# Altium footprint library Jumper-SolderBridge.PcbLib: 24 footprints (part 2 of 2)
Each footprint in its own frame and in the unit in brackets; x right, y up, seen from the top. Pads: shape width x height; smd on the part's side, far side on the other; paste and mask are expansions set on the pad; w line width, h text height; cw(c..) or ccw(c..) is an arc to the next point about the centre after c.
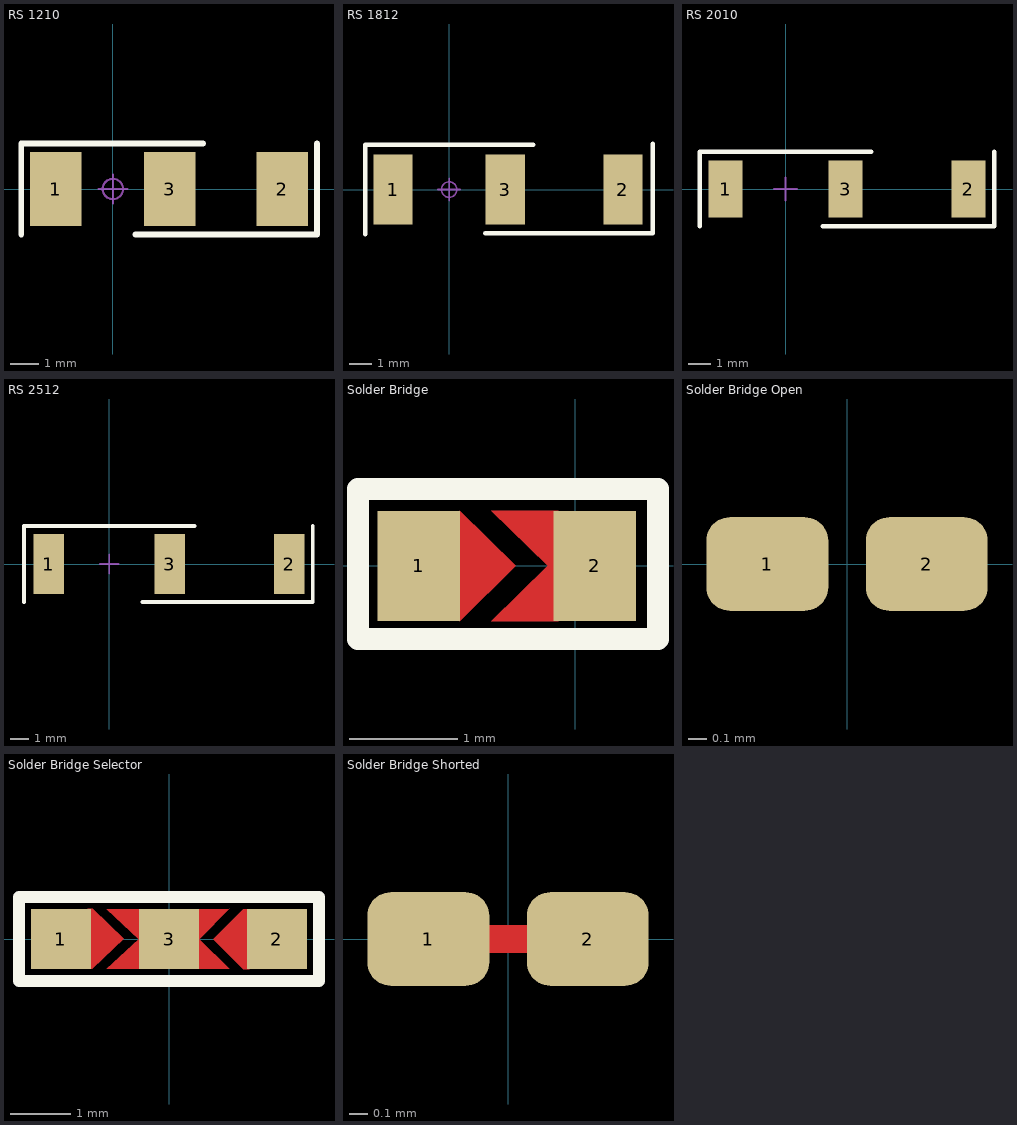
[diagram p1: the footprints below, top view; thin cyan lines are the x and y axes]

## RS 1210 [mil]
pads (3):
  rect 70x100 smd: 1(-77.5,0) 2(230,0) 3(77.5,0)
Top Overlay:
  lines w8: -124.5,-62 -124.5,62 40.5,62 122.5,62 ; 30.5,-62 195.5,-62 277.5,-62 277.5,62
Mechanical 15:
  circle w3: c0,0 r13.78
  lines w3: -19.68,0 19.68,0 ; 0,-19.68 0,19.69
3D body "R 1210.STEP": height 21.69, standoff -0.32, extent -62.99,-49.2 63,49.22

## RS 1812 [mil]
pads (3):
  rect 70x125 smd: 1(-100,0) 2(310,0) 3(100,0)
Top Overlay:
  lines w8: -150,-80 -150,80 -70,80 -50,80 40,80 50,80 150,80 ; 64,-78 363,-78 363,82
Mechanical 15:
  circle w3: c0,0 r13.78
  lines w3: -19.68,0 19.69,0 ; 0,-19.68 0,19.69
3D body "R 1812.STEP": height 21.69, standoff -0.47, extent -88.58,-62.99 88.59,63

## RS 2010 [mm]
pads (3):
  rect 1.52x2.54 smd: 1(-2.665,0) 2(8.128,0) 3(2.665,0)
Top Overlay:
  lines w0.203: -3.81,-1.651 -3.81,0.635 -3.81,1.651 1.27,1.651 3.81,1.651 ; 1.651,-1.651 6.731,-1.651 9.271,-1.651 9.271,-0.635 9.271,1.651
Mechanical 15:
  lines w0.1: -0.508,0 0.508,0 ; 0,-0.508 0,0.508
3D body "R 2010.STEP": height 0.55, standoff -0.01, extent -2.5,-1.25 2.5,1.25

## RS 2512 [mm]
pads (3):
  rect 1.65x3.2 smd: 1(-3.24,0) 2(9.652,0) 3(3.24,0)
Top Overlay:
  lines w0.203: -4.572,-2.032 -4.572,2.032 4.572,2.032 ; 1.778,-2.032 10.922,-2.032 10.922,2.032
Mechanical 15:
  lines w0.1: -0.508,0 0.508,0 ; 0,-0.508 0,0.508
3D body "R 2512.STEP": height 0.55, standoff -0.02, extent -3.2,-1.6 3.2,1.6

## Solder Bridge [mil]
pads (2):
  rect 30x40 smd: 1(-57,0) 2(7,0)
Top Layer:
  region: -30.57,20 -10,0 -30.57,-20 -6.22,-20 -6.22,20
  region: -42,20 -21.71,0.03 -42,-20
Top Overlay:
  lines w7.87: -79,-26.56 30,-26.56 30,28 -79,28 -79,-26.56
Top Solder:
  region: -42.29,24 -11.78,24 -11.78,-24 -42.29,-24
Mechanical 1:
  lines w3.94: -78,-26 -78,26 28,26 28,-26 -78,-26

## Solder Bridge Open [mil]
pads (2):
  rrect50% 26x20 smd: 1(-17,0) 2(17,0)
Top Solder:
  region: 25,12 -25,12 -26.39,12 -28.96,10.94 -30.94,8.97 -32,6.39 -32,5 -32,-5 -32,-6.39 -30.94,-8.97 -28.97,-10.94 -26.39,-12 -25,-12 25,-12 26.39,-12 28.96,-10.94 30.93,-8.97 32,-6.39 32,-5 32,5 32,6.39 30.93,8.96 28.96,10.93 26.39,12

## Solder Bridge Selector [mm]
pads (3):
  rect 1x1 smd: 1(-1.8,0) 2(1.8,0) 3(0,0)
Top Layer:
  region: -1.035,0.5 -0.508,0 -1.035,-0.5 -0.45,-0.5 -0.45,0.5
  region: -1.358,0.502 -1.274,0.502 -0.758,0.006 -1.282,-0.498 -1.358,-0.498
  region: 1.008,0.5 0.508,0 1.008,-0.5 0.45,-0.5 0.45,0.5
  region: 1.341,0.496 1.241,0.496 0.741,-0.004 1.241,-0.504 1.341,-0.504
Top Overlay:
  lines w0.2: -2.5,-0.7 2.5,-0.7 2.5,0.7 -2.5,0.7 -2.5,-0.7
Top Solder:
  region: -1.2,0.6 1.2,0.6 1.2,-0.6 -1.2,-0.6
Mechanical 1:
  lines w0.1: -2.5,-0.7 -2.5,0.7 2.5,0.7 2.5,-0.7 -2.5,-0.7

## Solder Bridge Shorted [mil]
pads (2):
  rrect50% 26x20 smd: 1(-17,0) 2(17,0)
Top Layer:
  lines w6: -17,0 17,0
Top Solder:
  region: 25,12 -25,12 -26.39,12 -28.96,10.94 -30.94,8.97 -32,6.39 -32,5 -32,-5 -32,-6.39 -30.94,-8.97 -28.97,-10.94 -26.39,-12 -25,-12 25,-12 26.39,-12 28.96,-10.94 30.93,-8.97 32,-6.39 32,-5 32,5 32,6.39 30.93,8.96 28.96,10.93 26.39,12